# EAGLE library part WISP_HEADER (library Wisp5_Harvester_Motor-driver_V2)
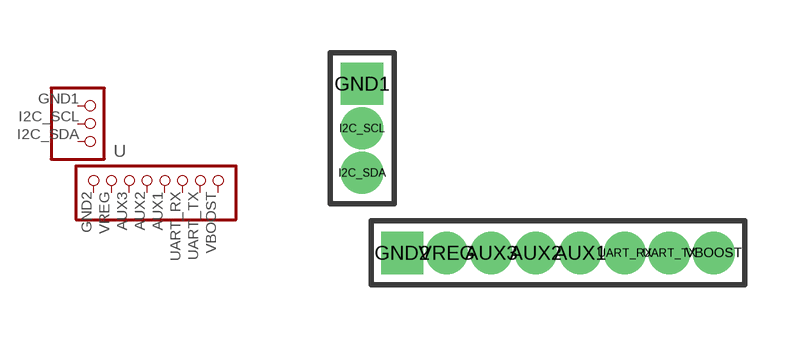
[diagram p0: symbol with the pads of PINHEAD_WISP3X8-1.27MM; footprint PINHEAD_WISP3X8-1.27MM]

Designator prefix -

## WISP_HEADER  [PINHEAD_WISP3X8-1.27MM]
AUX1  AUX1  pas
AUX2  AUX2  pas
AUX3  AUX3  pas
GND1  GND1  pas
GND2  GND2  pas
I2C_SCL  I2C_SCL  pas
I2C_SDA  I2C_SDA  pas
UART_RX  UART_RX  pas
UART_TX  UART_TX  pas
VBOOST  VBOOST  pas
VREG  VREG  pas

## Footprint PINHEAD_WISP3X8-1.27MM (pad centres in mm)
drill 0.7: AUX1 7.493,1.27; AUX2 6.223,1.27; AUX3 4.953,1.27; I2C_SCL 1.27,4.826; I2C_SDA 1.27,3.556; UART_RX 8.763,1.27; UART_TX 10.033,1.27; VBOOST 11.303,1.27; VREG 3.683,1.27
drill 0.7 square: GND1 1.27,6.096; GND2 2.413,1.27